# Altium schematic symbol library CSD87503Q3ET.SCHLIB: 1 symbol
Pins are listed as number, name and electrical type; pins without a type are passive.

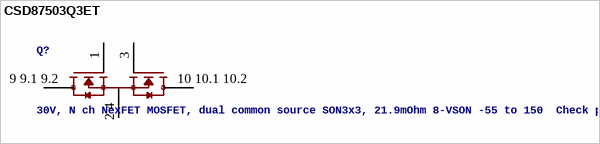
[diagram p0: symbol CSD87503Q3ET]

## CSD87503Q3ET
designator Q?, comment 30V, N ch NexFET MOSFET, dual common source SON3x3, 21.9mOhm 8-VSON -55 to 150  Check prices Check prices
GateName_1: G$1; SymbolName_1: CSD87503Q3ET; Description: 30-V, N channel NexFET™ power MOSFET, dual common source SON 3 mm x 3 mm, 21.9 mOhm; MF: Texas Instruments; LibraryName: CSD87503Q3ET; DeviceSetName: CSD87503Q3ET; Digi-Key_Part_Number: 296-47497-2-ND; Package: VSON-8 Texas Instruments; MP: CSD87503Q3ET; Purchase-URL: https://pricing.snapeda.com/search/part/CSD87503Q3ET/?ref=eda
footprint TRANS_CSD87503Q3ET
pins: 1 G1, 2 4 S, 3 G2, 9 9.1 9.2 D1, 10 10.1 10.2 D2